# Altium footprint library Connectors.PcbLib: 21 footprints (part 1 of 2)
Each footprint in its own frame and in the unit in brackets; x right, y up, seen from the top. Pads: shape width x height; smd on the part's side, far side on the other; paste and mask are expansions set on the pad; w line width, h text height; cw(c..) or ccw(c..) is an arc to the next point about the centre after c.
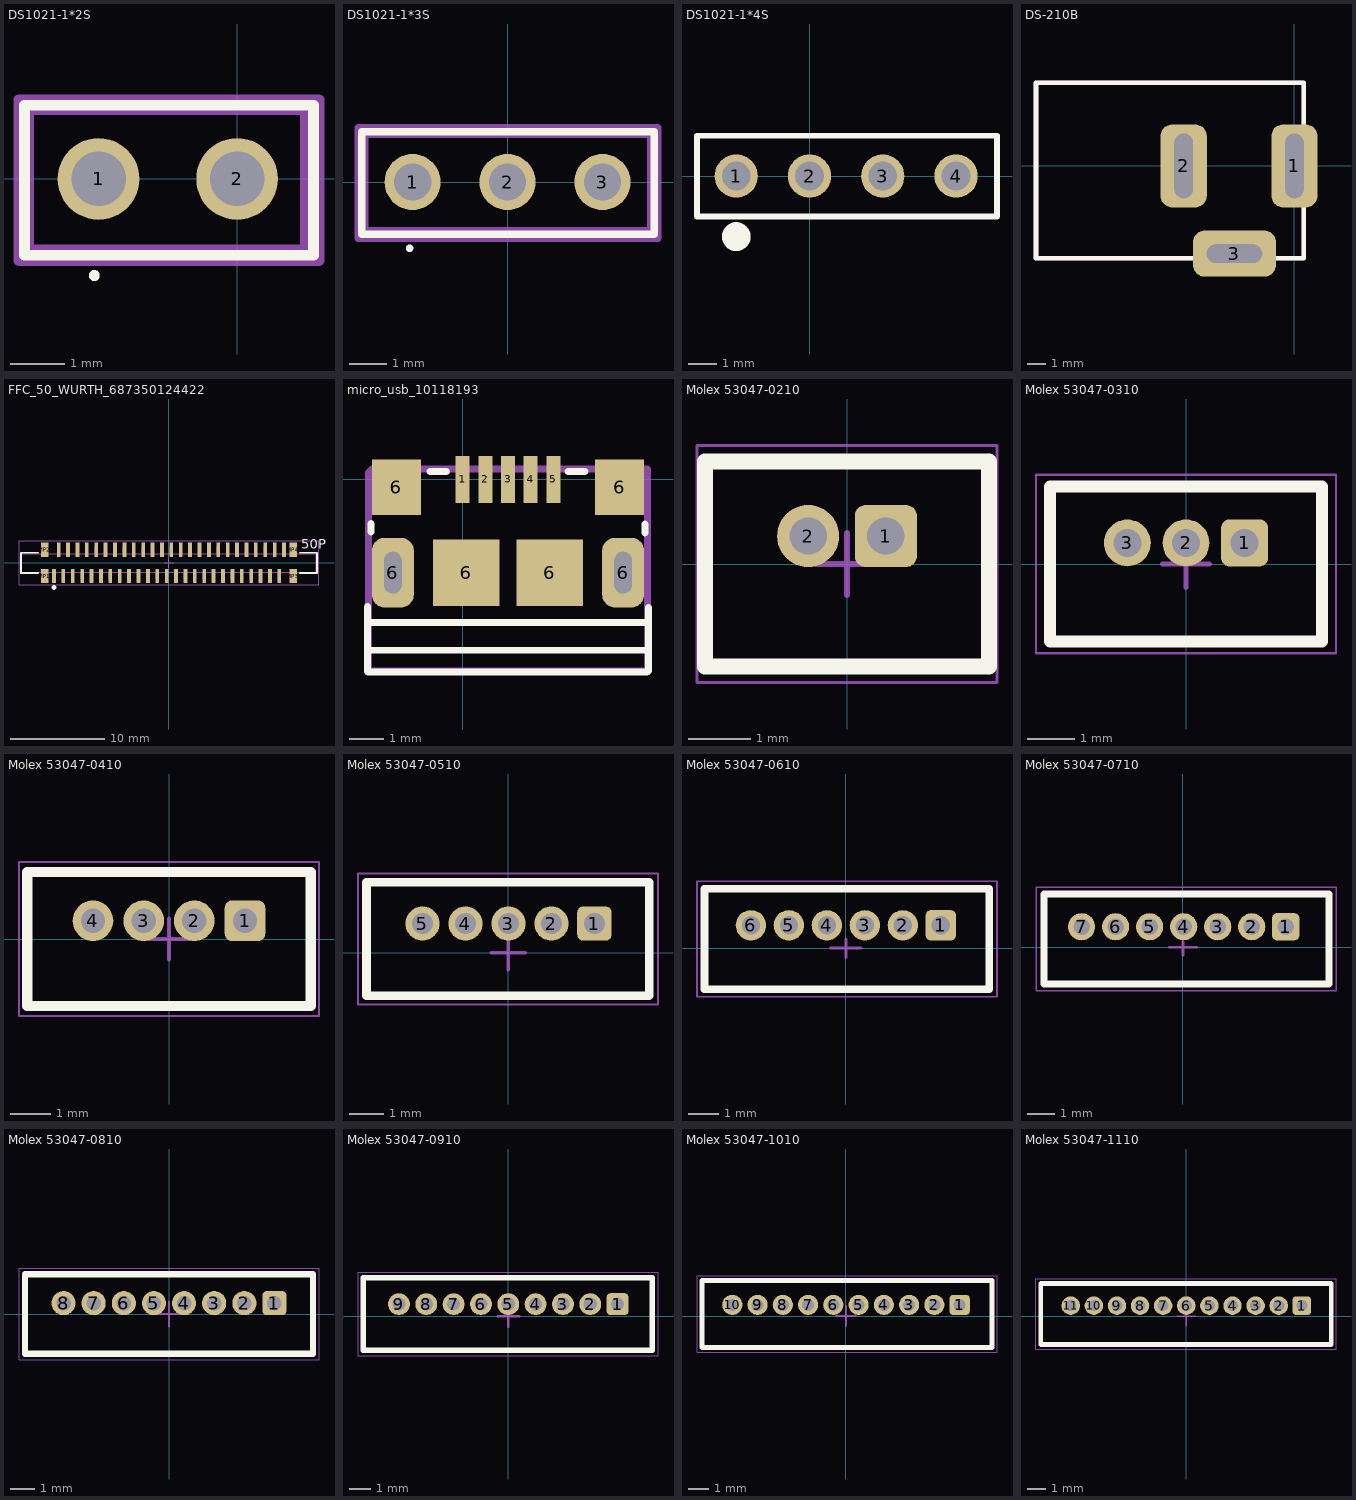
[diagram p0: the footprints below, top view; thin cyan lines are the x and y axes]

## DS1021-1*2S [mm] "PLS-2"
height 10.5
pads (2):
  round 1.5 hole 1: 1(-2.54,0) 2(0,0)
Top Overlay:
  circle w0.1: c-2.62,-1.772 r0.05
  lines w0.2: -3.9,-1.4 1.4,-1.4 1.4,1.35 -3.9,1.35 -3.9,-1.4
Mechanical 13:
  circle w0.254: c-2.55,0 r0.58
  circle w0.254: c0,0 r0.58
  lines w0.2: -3.825,-1.3 -3.825,1.275 1.25,1.275 1.25,-1.3 -3.825,-1.3
Mechanical 15:
  lines w0.1: -0.504,0 0.504,0 ; 0.004,-0.5 0.004,0.5
  lines w0.2: -4,-1.5 -4,1.45 1.5,1.45 1.5,-1.5 -4,-1.5
3D body "jumper 2_54mm.step": height 8.7, standoff 2.7, extent -3.75,-1.225 1.25,1.175
3D body "PLD-2.step": height 8.6, standoff -2.9, extent -3.775,-1.29 1.225,1.25

## DS1021-1*3S [mm] "PLS-3"
height 10.5
pads (3):
  round 1.5 hole 1: 1(-2.54,0) 2(0,0) 3(2.54,0)
Top Overlay:
  circle w0.1: c-2.62,-1.772 r0.05
  lines w0.2: -3.9,-1.4 3.925,-1.4 3.925,1.35 -3.9,1.35 -3.9,-1.4
Mechanical 13:
  circle w0.254: c-2.55,0 r0.58
  circle w0.254: c2.55,0 r0.58
  circle w0.254: c0,0 r0.58
  lines w0.2: -3.825,-1.3 -3.825,1.275 3.825,1.275 3.825,-1.3 -3.825,-1.3
Mechanical 15:
  lines w0.1: -0.504,0 0.504,0 ; 0.004,-0.5 0.004,0.5
  lines w0.2: -4,-1.5 -4,1.45 4.025,1.45 4.025,-1.5 -4,-1.5
3D body "PLS-3.step": height 8.64, standoff -2.9, extent -3.81,-1.275 3.81,1.265
3D body "jumper 2_54mm.step": height 8.7, standoff 2.7, extent -3.75,-1.25 1.25,1.15

## DS1021-1*4S [mm] "PLS-4"
height 10.5
pads (4):
  round 1.5 hole 1: 1(-2.54,0) 2(0,0) 3(2.54,0) 4(5.08,0)
Top Overlay:
  circle w0.6: c-2.54,-2.1 r0.2
  lines w0.2: -3.9,-1.4 -3.9,1.4 6.5,1.4 6.5,-1.4 -3.9,-1.4
Mechanical 13:
  circle w0.254: c0,0 r0.58
  circle w0.254: c2.55,0 r0.58
  circle w0.254: c-2.55,0 r0.58
3D body "jumper 2_54mm.step": height 8.9, standoff 2.9, extent -3.75,-1.2 1.25,1.2
3D body "User Library-1x4 TH Pitch 2_54mm.STEP": height 9.2, standoff -3.5, extent -3.78,-1.27 6.38,1.27

## DS-210B [mm]
pads (3):
  rrect50% 2.5x4.5 hole 1 slot 3.5 at 90 deg: 1(0,0) 2(-6,0)
  rrect50% 4.5x2.5 hole 1 slot 3 at 0 deg: 3(-3.25,-4.75)
Top Overlay:
  lines w0.254: -14,-5 0.5,-5 0.5,4.5 -14,4.5 -14,-5
Mechanical 11:
  lines w0.254: -14,-5 0.5,-5 0.5,4.5 -14,4.5 -14,-5
3D body "PJ-002A--3DModel-STEP-56544.STEP": height 11, standoff -3.5, extent -13.9,-4.95 0.5,4.45

## FFC_50_WURTH_687350124422 [mm] "ZIF Connectors, Vertical, Type A, pitch 0.5mm, 50p"
height 4.5
pads (54):
  rect 0.4x1.5 smd: 1(-12.25,-1.4) 2(-11.75,1.4) 3(-11.25,-1.4) 4(-10.75,1.4) 5(-10.25,-1.4) 6(-9.75,1.4) 7(-9.25,-1.4) 8(-8.75,1.4) 9(-8.25,-1.4) 10(-7.75,1.4) 11(-7.25,-1.4) 12(-6.75,1.4) 13(-6.25,-1.4) 14(-5.75,1.4) 15(-5.25,-1.4) 16(-4.75,1.4) 17(-4.25,-1.4) 18(-3.75,1.4) 19(-3.25,-1.4) 20(-2.75,1.4) 21(-2.25,-1.4) 22(-1.75,1.4) 23(-1.25,-1.4) 24(-0.75,1.4) 25(-0.25,-1.4) 26(0.25,1.4) 27(0.75,-1.4) 28(1.25,1.4) 29(1.75,-1.4) 30(2.25,1.4) 31(2.75,-1.4) 32(3.25,1.4) 33(3.75,-1.4) 34(4.25,1.4) 35(4.75,-1.4) 36(5.25,1.4) 37(5.75,-1.4) 38(6.25,1.4) 39(6.75,-1.4) 40(7.25,1.4) 41(7.75,-1.4) 42(8.25,1.4) 43(8.75,-1.4) 44(9.25,1.4) 45(9.75,-1.4) 46(10.25,1.4) 47(10.75,-1.4) 48(11.25,1.4) 49(11.75,-1.4) 50(12.25,1.4)
  rect 0.8x1.5 smd: MP1(-13.25,-1.4) MP2(-13.25,1.4) MP3(13.25,-1.4) MP4(13.25,1.4)
Top Overlay:
  circle w0.25: c-12.25,-2.625 r0.125
  lines w0.2: -13.95,-1.075 -15.775,-1.075 -15.775,1.075 -13.95,1.075 ; 13.95,-1.075 15.775,-1.075 15.775,1.075 13.95,1.075
  text "50P" at 14.1,1.5 h1.02
Mechanical 11:
  drawing of 166 lines, arcs and shapes, not listed
  text ".Designator" at -1.4,-0.6 h1.2
Mechanical 13:
  drawing of 166 lines, arcs and shapes, not listed
Mechanical 15:
  lines w0.05: -0.5,0 0.5,0 ; 0,-0.5 0,0.5 ; -15.975,-2.35 -15.975,2.35 15.975,2.35 15.975,-2.35 -15.975,-2.35
3D body "687350124422.stp": height 4.92, standoff 0.02, extent -15.7,-1.75 15.7,1.75

## micro_usb_10118193 [mm]
pads (11):
  rect 0.4x1.35 smd mask+0.05: 1(0,0) 2(0.65,0) 3(1.3,0) 4(1.95,0) 5(2.6,0)
  rrect60% 1.2x2 hole 0.5 slot 1.2 at 90 deg: 6(-2,-2.675) 6(4.6,-2.675)
  rect 1.4x1.6 smd: 6(-1.9,-0.225) 6(4.5,-0.225)
  rect 1.9x1.9 smd: 6(0.1,-2.675) 6(2.5,-2.675)
Top Overlay:
  lines w0.2: -2.73,-3.65 -2.73,-5.51 -2.71,-5.53 5.29,-5.53 5.33,-5.49 5.33,-3.67 ; -2.7,-4.9 -2.5,-4.9 5,-4.9 5.3,-4.9 ; -2.7,-4.1 5.3,-4.1 ; -2.63,-1.51 -2.63,-1.26 ; -0.94,0.23 -0.46,0.23 ; 3.02,0.23 3.51,0.23 ; 5.23,-1.54 5.23,-1.28
Mechanical 2:
  lines w0.2: -2.7,-5.5 -2.7,0.2 -2.6,0.3 5.3,0.3 5.3,-5.5 -2.7,-5.5
3D body "10118193-0001lfc.stp": height 2.87, standoff -0.73, extent -2.628,-5.43 5.229,0.23

## Molex 53047-0210 [mm] "Picoblade 2pin vetical"
pads (2):
  rrect35% 1x1 hole 0.6: 1(0.625,0.45)
  round 1 hole 0.6: 2(-0.625,0.45)
Top Overlay:
  lines w0.254: -2.286,-1.651 2.286,-1.651 2.286,1.651 -2.286,1.651 -2.286,-1.651
Mechanical 15:
  lines w0.05: -2.413,-1.905 2.413,-1.905 2.413,1.905 -2.413,1.905 -2.413,-1.905
  lines w0.1: -0.5,0 0.5,0 ; 0,-0.5 0,0.5
3D body "530470210.stp": height 4.21, standoff -2.29, extent -2.125,-1.651 2.125,1.549

## Molex 53047-0310 [mm] "Picoblade 3pin vetical"
pads (3):
  rrect35% 1x1 hole 0.6: 1(1.25,0.45)
  round 1 hole 0.6: 2(0,0.45) 3(-1.25,0.45)
Top Overlay:
  lines w0.254: -2.9,-1.651 2.9,-1.651 2.9,1.651 -2.9,1.651 -2.9,-1.651
Mechanical 15:
  lines w0.05: -3.2,-1.905 3.2,-1.905 3.2,1.905 -3.2,1.905 -3.2,-1.905
  lines w0.1: -0.5,0 0.5,0 ; 0,-0.5 0,0.5
3D body "530470310.stp": height 4.2, standoff -2.3, extent -2.75,-1.6 2.75,1.6

## Molex 53047-0410 [mm] "Picoblade 4pin vetical"
pads (4):
  rrect35% 1x1 hole 0.6: 1(1.875,0.45)
  round 1 hole 0.6: 2(0.625,0.45) 3(-0.625,0.45) 4(-1.875,0.45)
Top Overlay:
  lines w0.254: -3.5,-1.651 3.5,-1.651 3.5,1.651 -3.5,1.651 -3.5,-1.651
Mechanical 15:
  lines w0.05: -3.7,-1.905 3.7,-1.905 3.7,1.905 -3.7,1.905 -3.7,-1.905
  lines w0.1: -0.5,0 0.5,0 ; 0,-0.5 0,0.5
3D body "530470410.stp": height 4.2, standoff -2.3, extent -3.375,-1.6 3.375,1.6

## Molex 53047-0510 [mm] "Picoblade 5pin vetical"
pads (5):
  rrect35% 1x1 hole 0.6: 1(2.506,0.851)
  round 1 hole 0.6: 2(1.256,0.851) 3(0.006,0.851) 4(-1.244,0.851) 5(-2.494,0.851)
Top Overlay:
  lines w0.254: -4.119,-1.25 4.1,-1.25 4.1,2.052 -4.119,2.052 -4.119,-1.25
Mechanical 15:
  lines w0.05: -4.369,-1.504 4.354,-1.504 4.354,2.306 -4.369,2.306 -4.369,-1.504
  lines w0.1: -0.5,0 0.5,0 ; 0,-0.5 0,0.5
3D body "530470510.stp": height 4.21, standoff -2.29, extent -4.01,-1.25 3.991,1.95

## Molex 53047-0610 [mm] "Picoblade 6pin vetical"
pads (6):
  rrect35% 1x1 hole 0.6: 1(3.125,0.75)
  round 1 hole 0.6: 2(1.875,0.75) 3(0.625,0.75) 4(-0.625,0.75) 5(-1.875,0.75) 6(-3.125,0.75)
Top Overlay:
  lines w0.254: -4.65,-1.351 4.719,-1.351 4.719,1.951 -4.65,1.951 -4.65,-1.351
Mechanical 15:
  lines w0.05: -4.9,-1.605 4.973,-1.605 4.973,2.205 -4.9,2.205 -4.9,-1.605
  lines w0.1: -0.5,0 0.5,0 ; 0,-0.3 0,0.3
3D body "530470610.stp": height 4.21, standoff -2.29, extent -4.59,-1.351 4.659,1.849

## Molex 53047-0710 [mm] "Picoblade 7pin vetical"
pads (7):
  rrect35% 1x1 hole 0.6: 1(3.775,0.75)
  round 1 hole 0.6: 2(2.525,0.75) 3(1.275,0.75) 4(0.025,0.75) 5(-1.225,0.75) 6(-2.475,0.75) 7(-3.725,0.75)
Top Overlay:
  lines w0.254: -5.1,-1.351 5.369,-1.351 5.369,1.951 -5.1,1.951 -5.1,-1.351
Mechanical 15:
  lines w0.05: -5.4,-1.605 5.623,-1.605 5.623,2.205 -5.4,2.205 -5.4,-1.605
  lines w0.1: -0.5,0 0.5,0 ; 0,-0.3 0,0.2
3D body "530470710.stp": height 4.21, standoff -2.29, extent -5.225,-1.35 5.275,1.85

## Molex 53047-0810 [mm] "Picoblade 8pin vetical"
pads (8):
  rrect35% 1x1 hole 0.6: 1(4.375,0.45)
  round 1 hole 0.6: 2(3.125,0.45) 3(1.875,0.45) 4(0.625,0.45) 5(-0.625,0.45) 6(-1.875,0.45) 7(-3.125,0.45)
  round 1 / inner round 0.9 / far side round 1 hole 0.6: 8(-4.375,0.45)
Top Overlay:
  lines w0.254: -5.969,-1.651 -5.969,1.651 5.969,1.651 5.969,-1.651 -5.969,-1.651
Mechanical 15:
  lines w0.05: -6.223,-1.905 -6.223,1.905 6.223,1.905 6.223,-1.905 -6.223,-1.905
  lines w0.1: -0.5,0 0.5,0 ; 0,-0.5 0,0.5
3D body "530470810.stp": height 4.2, standoff -2.3, extent -5.875,-1.6 5.875,1.6

## Molex 53047-0910 [mm] "Picoblade 9pin vetical"
pads (9):
  rrect35% 1x1 hole 0.6: 1(4.996,0.554)
  round 1 hole 0.6: 2(3.746,0.554) 3(2.496,0.554) 4(1.246,0.554) 5(-0.004,0.554) 6(-1.254,0.554) 7(-2.504,0.554)
  round 1 / inner round 0.9 / far side round 1 hole 0.6: 8(-3.754,0.554) 9(-5.004,0.554)
Top Overlay:
  lines w0.254: -6.629,-1.547 6.59,-1.547 6.59,1.755 -6.629,1.755 -6.629,-1.547
Mechanical 15:
  lines w0.05: -6.879,-1.801 6.844,-1.801 6.844,2.009 -6.879,2.009 -6.879,-1.801
  lines w0.1: -0.5,0 0.5,0 ; -0.004,-0.496 -0.004,0.504
3D body "530470910.stp": height 4.21, standoff -2.29, extent -6.503,-1.546 6.497,1.654

## Molex 53047-1010 [mm] "Picoblade 10pin vetical"
pads (10):
  rrect35% 1x1 hole 0.6: 1(5.629,0.554)
  round 1 hole 0.6: 2(4.379,0.554) 3(3.129,0.554) 4(1.879,0.554) 5(0.629,0.554) 6(-0.621,0.554) 7(-1.871,0.554)
  round 1 / inner round 0.9 / far side round 1 hole 0.6: 8(-3.121,0.554) 9(-4.371,0.554) 10(-5.621,0.554)
Top Overlay:
  lines w0.254: -7.118,-1.547 7.223,-1.547 7.223,1.755 -7.118,1.755 -7.118,-1.547
Mechanical 15:
  lines w0.05: -7.368,-1.801 7.477,-1.801 7.477,2.009 -7.368,2.009 -7.368,-1.801
  lines w0.1: -0.5,0 0.5,0 ; 0,-0.5 0,0.5
3D body "530471010.stp": height 4.21, standoff -2.29, extent -7.15,-1.525 7.1,1.675

## Molex 53047-1110 [mm] "Picoblade 11pin vetical"
pads (11):
  rrect35% 1x1 hole 0.6: 1(6.25,0.575)
  round 1 hole 0.6: 2(5,0.575) 3(3.75,0.575) 4(2.5,0.575) 5(1.25,0.575) 6(0,0.575) 7(-1.25,0.575)
  round 1 / inner round 0.9 / far side round 1 hole 0.6: 8(-2.5,0.575) 9(-3.75,0.575) 10(-5,0.575) 11(-6.25,0.575)
Top Overlay:
  lines w0.254: -7.879,-1.526 -7.879,1.776 7.844,1.776 7.844,-1.526 -7.879,-1.526
Mechanical 15:
  lines w0.05: -8.129,-1.78 -8.129,2.03 8.098,2.03 8.098,-1.78 -8.129,-1.78
  lines w0.1: -0.5,0 0.5,0 ; 0,-0.5 0,0.5
3D body "530471110.stp": height 4.21, standoff -2.29, extent -7.75,-1.525 7.75,1.675